# Altium integrated library Capacitors.IntLib: 260 symbols (part 1 of 3)
Pins are listed as number, name and electrical type; pins without a type are passive.

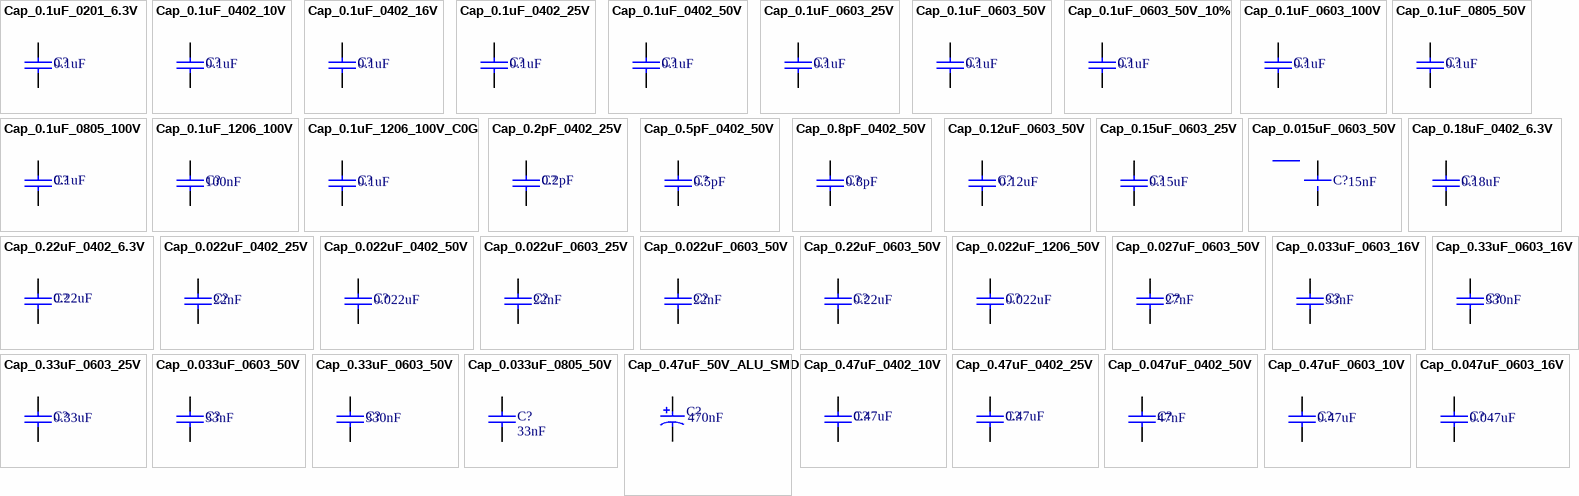
[diagram p0: symbols Cap_0.1uF_0201_6.3V to Cap_0.047uF_0603_16V]

## Cap_0.1uF_0201_6.3V
designator C?, comment value 0.1uF  (hidden comment: 0.1uF 6.3V)
CAP CER 0.1UF 6.3V X7R 0201; Manufacturer: Venkel; Manufacturer Part Number: C0201X7R6R3-104KNP-CT; Supplier 1: Digi-Key; Supplier Part Number 1: 2679-C0201X7R6R3-104KNP-CT-ND; Last modified by: J.Jaramillo; Last modified date: 20240309; ComponentLink1Description: Digi-Key; ComponentLink1URL: https://www.digikey.com/en/products/detail/venkel/C0201X7R6R3-104KNP-CT/14651869?s=N4IgTCBcDaIMIAYwIIwA0DsAlAbFgzALQoIAsA0gHIAKhcAKiALoC%2BQA
footprint 0201 (20211214 / E.Naranjo)
pins: 1, 2

## Cap_0.1uF_0402_10V
designator C?, comment value 0.1uF  (hidden comment: 0.1uF 10V)
CAP CER 0.1UF 10V X7R 0402; Manufacturer: Murata Electronics; Manufacturer Part Number: GCM155R71A104KA55D; Supplier 1: Digi-key; Supplier Part Number 1: 490-16434-1-ND; Last modified by: J.Jaramillo; Last modified date: 20240309; ComponentLink1Description: Digi-key; ComponentLink1URL: https://www.digikey.com/en/products/detail/murata-electronics/GCM155R71A104KA55D/7363178
footprint 0402
footprint 0402_RF
pins: 1, 2

## Cap_0.1uF_0402_16V
designator C?, comment value 0.1uF  (hidden comment: 0.1uF 16V)
CAP CER 0.1UF 16V X7R 0402; Manufacturer: Murata Electronics; Manufacturer Part Number: GCM155R71C104JA55D; Supplier 1: Digi-Key; Supplier Part Number 1: 490-16433-1-ND; Last modified by: J.Jaramillo; Last modified date: 20240309; ComponentLink1Description: Digi-Key; ComponentLink1URL: https://www.digikey.com/product-detail/en/murata-electronics/GCM155R71C104JA55D/490-16433-1-ND/7363415
footprint 0402 (1005 Metric / 20190221 / C-A.Serna.A)
footprint 0402_RF (1005 Metric / 20190221 / C-A.Serna.A)
pins: 1, 2

## Cap_0.1uF_0402_25V
designator C?, comment value 0.1uF  (hidden comment: 100nF 25V)
CAP CER 0.1UF 25V X7R 0402; Manufacturer: Yageo; Manufacturer Part Number: CC0402KRX7R8BB104; Last modified by: J.Jaramillo; Last modified date: 20240309; ComponentLink1Description: Digi-key; ComponentLink1URL: https://www.digikey.com/products/en?keywords=311-2077-1-ND; Supplier 1: Digi-Key; Supplier Part Number 1: 311-2077-1-ND
footprint 0402_RF
footprint 0402
pins: 1, 2

## Cap_0.1uF_0402_50V
designator C?, comment value 0.1uF  (hidden comment: 0.1uF 50V)
CAP CER 0.1UF 50V X7R 0402; Manufacturer: Samsung Electro-Mechanics; Manufacturer Part Number: CL05B104KB54PNC; Supplier 1: Digi-Key; Supplier Part Number 1: 1276-CL05B104KB54PNCCT-ND; Last modified by: J.Jaramillo; Last modified date: 20240309; ComponentLink1Description: Digi-Key; ComponentLink1URL: https://www.digikey.com/en/products/detail/samsung-electro-mechanics/CL05B104KB54PNC/11487801?s=N4IgTCBcDaIMIBkAMBWAQgRiQFgNJpWwAUA5OEAXQF8g
footprint 0402 (1005 Metric / 20190221 / C-A.Serna.A)
footprint 0402_RF (1005 Metric / 20190221 / C-A.Serna.A)
pins: 1, 2

## Cap_0.1uF_0603_25V
designator C?, comment value 0.1uF  (hidden comment: 100nF 25V)
CAP CER 0.1UF 25V X7R 0603; Manufacturer: TDK; Manufacturer Part Number: CGA3E2X7R1E104K080AA; Last modified by: J.Jaramillo; Last modified date: 20240309; ComponentLink1Description: Digi-key; ComponentLink1URL: https://www.digikey.com/en/products/detail/tdk-corporation/CGA3E2X7R1E104K080AA/2443145?s=N4IgTCBcDaIMIHECCBmAomAGgdgEoEY18AGAFgGliAOYpJEAXQF8g; Supplier 1: Digi-Key; Supplier Part Number 1: 445-5667-1-ND
footprint 0603
pins: 1, 2

## Cap_0.1uF_0603_50V
designator C?, comment value 0.1uF  (hidden comment: 0.1uF 50V)
CAP CER 0.1UF 50V X7R 0603; Manufacturer: Samsung Electro-Mechanics; Manufacturer Part Number: CL10B104JB8NNNC; Supplier 1: Digi-Key; Supplier Part Number 1: 1276-1033-1-ND; Last modified by: J.Jaramillo; Last modified date: 20240309; ComponentLink1Description: Digi-key; ComponentLink1URL: https://www.digikey.com/en/products/detail/samsung-electro-mechanics/CL10B104JB8NNNC/3886691?s=N4IgTCBcDaIIxgOwDYC0cAMBmL7UDkAREAXQF8g
footprint 0603
pins: 1, 2

## Cap_0.1uF_0603_50V_10%
designator C?, comment value 0.1uF  (hidden comment: 0.1uF 50V)
CAP CER 0.1UF 50V X7R 0603; Manufacturer: Yageo; Manufacturer Part Number: CC0603KRX7R9BB104; Supplier 1: Digi-Key; Supplier Part Number 1: 311-1344-1-ND; Last modified by: J.Jaramillo; Last modified date: 20240309; ComponentLink1Description: Digi-key; ComponentLink1URL: https://www.digikey.com/en/products/detail/yageo/CC0603KRX7R9BB104/2103082?s=N4IgTCBcDaIMJwAwDZEGYDSAlAGgdiwE4AhYgRkQBYQBdAXyA
footprint 0603
pins: 1, 2

## Cap_0.1uF_0603_100V
designator C?, comment value 0.1uF  (hidden comment: 0.1uF 100V)
CAP CER 0.1UF 100V X7R 0603; Manufacturer: Samsung Electro-Mechanics; Manufacturer Part Number: CL10B104KC8NNNC; Supplier 1: Digi-Key; Supplier Part Number 1: 1276-6807-1-ND; Last modified by: J.Jaramillo; Last modified date: 20240309; ComponentLink1Description: Digi-Key; ComponentLink1URL: https://www.digikey.com/en/products/detail/samsung-electro-mechanics/CL10B104KC8NNNC/5961291
footprint 0603 (1608 Metric / 20190221 / C-A.Serna.A)
pins: 1, 2

## Cap_0.1uF_0805_50V
designator C?, comment value 0.1uF  (hidden comment: 0.1uF 50V)
CAP CER 0.1UF 50V X7R 0805; Manufacturer: Yageo; Manufacturer Part Number: CC0805JRX7R9BB104; Supplier 1: Digi-Key; Supplier Part Number 1: 311-1858-1-ND; Last modified by: J.Jaramillo; Last modified date: 20240309; ComponentLink1Description: Digi-Key; ComponentLink1URL: https://www.digikey.com/product-detail/en/yageo/CC0805JRX7R9BB104/311-1858-1-ND/5195760
footprint 0805
pins: 1, 2

## Cap_0.1uF_0805_100V
designator C?, comment value 0.1uF  (hidden comment: 0.1uF 100V)
CAP CER 0.1UF 100V X7R 0805; Manufacturer: Samsung Electro-Mechanics; Manufacturer Part Number: CL21B104KCFWPNE; Supplier 1: Digi-Key; Supplier Part Number 1: 1276-6733-1-ND; Last modified by: J.Jaramillo; Last modified date: 20240309; ComponentLink1Description: Digi-Key; ComponentLink1URL: https://www.digikey.com/products/en?keywords=1276-6733-1-ND
footprint 0805
pins: 1, 2

## Cap_0.1uF_1206_100V
designator C?, comment value 100nF  (hidden comment: 100nF 100V)
CAP CER 0.1UF 100V X7R 1206; Manufacturer: Samsung Electro-Mechanics; Manufacturer Part Number: CL31B104KCFNNNE; Supplier 1: Digi-Key; Supplier Part Number 1: 1276-1151-1-ND; Last modified by: J.Jaramillo; Last modified date: 20240309; ComponentLink1Description: Digi-Key; ComponentLink1URL: https://www.digikey.com/en/products/detail/samsung-electro-mechanics/CL31B104KCFNNNE/3886809
footprint 1206 (3216 Metric / 20190221 / C-A.Serna.A)
pins: 1, 2

## Cap_0.1uF_1206_100V_C0G
designator C?, comment value 0.1uF  (hidden comment: 0.1uF 100V)
CAP CER 0.1UF 100V C0G 1206; Manufacturer: TDK Corporation; Manufacturer Part Number: C3216C0G2A104J160AC; Supplier 1: Digi-Key; Supplier Part Number 1: 445-172677-1-ND; Last modified by: J.Jaramillo; Last modified date: 20240309; ComponentLink1Description: Digi-Key; ComponentLink1URL: https://www.digikey.com/en/products/detail/tdk-corporation/C3216C0G2A104J160AC/5023355
footprint 1206 (3216 Metric / 20190221 / C-A.Serna.A)
pins: 1, 2

## Cap_0.2pF_0402_25V
designator C?, comment value 0.2pF  (hidden comment: 0.2pF 25V)
CAP CER 0.2PF 25V NP0 0402; Manufacturer: AVX Corporation; Manufacturer Part Number: 04023U0R2BAT2A; Supplier 1: Digi-key; Supplier Part Number 1: 478-11361-1-ND; Last modified by: J.Jaramillo; Last modified date: 20240309; ComponentLink1Description: Digi-key; ComponentLink1URL: https://www.digikey.com/product-detail/en/avx-corporation/04023U0R2BAT2A/478-11361-2-ND/3079761
footprint 0402 (1005 Metric / 20190221 / C-A.Serna.A)
footprint 0402_RF (1005 Metric / 20190221 / C-A.Serna.A)
pins: 1, 2

## Cap_0.5pF_0402_50V
designator C?, comment value 0.5pF  (hidden comment: 0.5pF 50V)
CAP CER 0.5PF 50V C0G/NP0 0402; Manufacturer: Würth Elektronik; Manufacturer Part Number: 885392005004; Supplier 1: Digi-key; Supplier Part Number 1: 732-13229-1-ND; Last modified by: J.Jaramillo; Last modified date: 20240309; ComponentLink1Description: Digi-key; ComponentLink1URL: https://www.digikey.com/product-detail/en/w%C3%BCrth-elektronik/885392005004/732-13229-1-ND/9816440
footprint 0402
footprint 0402_RF
pins: 1, 2

## Cap_0.8pF_0402_50V
designator C?, comment value 0.8pF  (hidden comment: 0.8pF 50V)
CAP CER 0.8PF 50V NP0 0402; Manufacturer Part Number: 500R07S0R8AV4T; Manufacturer: Johanson Technology Inc.; Last modified by: J.Jaramillo; Last modified date: 20240309; ComponentLink1Description: Digi-key; ComponentLink1URL: https://www.digikey.tw/products/en?keywords=712-1604-1-ND; Supplier 1: Digi-Key; Supplier Part Number 1: 712-1604-1-ND
footprint 0402_RF
footprint 0402
pins: 1, 2

## Cap_0.12uF_0603_50V
designator C?, comment value 0.12uF  (hidden comment: 0.12uF 50V)
CAP CER 0.12UF 50V X7R 0603; Manufacturer: YAGEO; Manufacturer Part Number: CC0603KRX7R9BB124; Supplier 1: Digi-Key; Supplier Part Number 1: 13-CC0603KRX7R9BB124CT-ND; Last modified by: J.Jaramillo; Last modified date: 20240309; ComponentLink1Description: Digi-Key; ComponentLink1URL: https://www.digikey.com/en/products/detail/yageo/CC0603KRX7R9BB124/11490609
footprint 0603_0.8mm (1608 Metric/20230206/J-A.Sepulveda)
pins: 1, 2

## Cap_0.15uF_0603_25V
designator C?, comment 0.15uF
CAP CER 0.15UF 25V X7R 0603; Manufacturer: Würth Elektronik; Manufacturer Part Number: 885012206072; Supplier 1: Digi-Key; Supplier Part Number 1: 732-7990-1-ND; Last modified by: J.Jaramillo; Last modified date: 20240309; ComponentLink1Description: Digi-Key; ComponentLink1URL: https://www.digikey.com/en/products/detail/würth-elektronik/885012206072/5453845; Value: 0.15uF
footprint 0603
pins: 1, 2

## Cap_0.015uF_0603_50V
designator C?, comment value 15nF  (hidden comment: 15nF 50V)
CAP CER 0.015UF 50V X7R 0603; Manufacturer: Samsung Electro-Mechanics; Manufacturer Part Number: CL10B153KB8NNNC; Supplier 1: Digi-Key; Supplier Part Number 1: 1276-1277-1-ND; Last modified by: J.Jaramillo; Last modified date: 20240309; ComponentLink1Description: Digi-Key; ComponentLink1URL: https://www.digikey.com/en/products/detail/samsung-electro-mechanics/CL10B153KB8NNNC/3886935?s=N4IgTCBcDaIMIBkCMAGAQkgrAZgNJoA4A5EuEAXQF8g
footprint 0603
footprint 0603_0.4mm (1608 Metric/20230303/J-A.Sepulveda)
footprint 0603_0.6mm (1608 Metric/20230206/J-A.Sepulveda)
footprint 0603_0.8mm (1608 Metric/20230206/J-A.Sepulveda)
footprint 0603_1.0mm (1608 Metric/20230206/J-A.Sepulveda)
footprint 0603_1.2mm (1608 Metric/20230206/J-A.Sepulveda)
footprint 0603_1.4mm (1608 Metric/20230206/J-A.Sepulveda)
pins: 1, 2

## Cap_0.18uF_0402_6.3V
designator C?, comment 0.18uF
CAP CER 0.18UF 6.3V X5R 0402; Manufacturer: Yageo; Manufacturer Part Number: CC0402KRX5R5BB184; Supplier 1: Digi-Key; Supplier Part Number 1: 13-CC0402KRX5R5BB184CT-ND; Last modified by: J.Jaramillo; Last modified date: 20240309; ComponentLink1Description: Digi-Key; ComponentLink1URL: https://www.digikey.com/en/products/detail/yageo/CC0402KRX5R5BB184/5883328?s=N4IgTCBcDaIIwGYC0BhFAGALOsBpASgBoCs%2BxAQuXAByYoAqSAcgCIgC6AvkA; Value: 0.18uF
footprint 0402 (1005 Metric / 20190221 / C-A.Serna.A)
pins: 1, 2

## Cap_0.22uF_0402_6.3V
designator C?, comment value 0.22uF  (hidden comment: 0.22uF 6.3V)
CAP CER 0.22UF 6.3V X5R 0402; Manufacturer: Yageo; Manufacturer Part Number: CC0402MRX5R5BB224; Supplier 1: Digi-Key; Supplier Part Number 1: 311-3819-1-ND; Last modified by: J.Jaramillo; Last modified date: 20240309; ComponentLink1Description: Digi-Key; ComponentLink1URL: https://www.digikey.com/en/products/detail/yageo/CC0402MRX5R5BB224/5883385
footprint 0402 (1005 Metric / 20190221 / C-A.Serna.A)
footprint 0402_RF (1005 Metric / 20190221 / C-A.Serna.A)
pins: 1, 2

## Cap_0.022uF_0402_25V
designator C?, comment value 22nF  (hidden comment: 22nF 25V)
CAP CER 0.022UF 25V X7R 0402; Manufacturer: Murata Electronics North America; Manufacturer Part Number: GRM155R71E223KA61D; Supplier 1: Digi-Key; Supplier Part Number 1: 490-3252-1-ND; Last modified by: J.Jaramillo; Last modified date: 20240309; ComponentLink1Description: Digi-key; ComponentLink1URL: https://www.digikey.com/en/products/detail/murata-electronics/GRM155R71E223KA61D/702517?s=N4IgTCBcDaIOICUCyBGArGhB2FBRMYAzANICCAbCgCIgC6AvkA
footprint 0402
footprint 0402_RF
footprint 0402_0.2mm (1005 Metric/20230206/J-A.Sepulveda)
footprint 0402_0.4mm (1005 Metric/20230206/J-A.Sepulveda)
footprint 0402_0.6mm (1005 Metric/20230206/J-A.Sepulveda)
footprint 0402_RF_0.8mm (1005 Metric/20230306/J-A.Sepulveda)
footprint 0402_0.8mm (1005 Metric/20230206/J-A.Sepulveda)
footprint 0402_1.0mm (1005 Metric/20230206/J-A.Sepulveda)
footprint 0402_RF_0.2mm (1005 Metric/20230306/J-A.Sepulveda)
footprint 0402_RF_0.4mm (1005 Metric/20230306/J-A.Sepulveda)
footprint 0402_RF_0.6mm (1005 Metric/20230306/J-A.Sepulveda)
footprint 0402_RF_1.0mm (1005 Metric/20230306/J-A.Sepulveda)
pins: 1, 2

## Cap_0.022uF_0402_50V
designator C?, comment value 0.022uF  (hidden comment: 0.022uF 50V)
CAP CER 0.022UF 50V X7R 0402; Manufacturer: YAGEO; Manufacturer Part Number: CC0402KRX7R9BB223; Supplier 1: Digi-Key; Supplier Part Number 1: 311-1722-1-ND; Last modified by: J.Jaramillo; Last modified date: 20240309; ComponentLink1Description: Digi-Key; ComponentLink1URL: https://www.digikey.com/en/products/detail/yageo/CC0402KRX7R9BB223/5195131?s=N4IgTCBcDaIMJwAwBZFgNICUAaB2TAnAEJFhgDMIAugL5A
footprint 0402 (1005 Metric / 20190221 / C-A.Serna.A)
footprint 0402_RF (1005 Metric / 20190221 / C-A.Serna.A)
footprint 0402_0.2mm (1005 Metric/20230206/J-A.Sepulveda)
footprint 0402_0.4mm (1005 Metric/20230206/J-A.Sepulveda)
footprint 0402_0.6mm (1005 Metric/20230206/J-A.Sepulveda)
footprint 0402_0.8mm (1005 Metric/20230206/J-A.Sepulveda)
footprint 0402_1.0mm (1005 Metric/20230206/J-A.Sepulveda)
footprint 0402_RF_0.2mm (1005 Metric/20230306/J-A.Sepulveda)
footprint 0402_RF_0.4mm (1005 Metric/20230306/J-A.Sepulveda)
footprint 0402_RF_0.6mm (1005 Metric/20230306/J-A.Sepulveda)
footprint 0402_RF_0.8mm (1005 Metric/20230306/J-A.Sepulveda)
footprint 0402_RF_1.0mm (1005 Metric/20230306/J-A.Sepulveda)
pins: 1, 2

## Cap_0.022uF_0603_25V
designator C?, comment value 22nF  (hidden comment: 0.022uF 25V)
CAP CER 0.022UF 25V X7R 0603; Manufacturer: Yageo; Manufacturer Part Number: CC0603KRX7R8BB223; Last modified by: J.Jaramillo; Last modified date: 20240309; ComponentLink1Description: Digi-Key; ComponentLink1URL: https://www.digikey.com/product-detail/en/yageo/CC0603KRX7R8BB223/311-1086-1-ND/302996; Supplier 1: Digi-Key; Supplier Part Number 1: 311-1086-1-ND
footprint 0603
footprint 0603_0.4mm (1608 Metric/20230303/J-A.Sepulveda)
footprint 0603_0.6mm (1608 Metric/20230206/J-A.Sepulveda)
footprint 0603_0.8mm (1608 Metric/20230206/J-A.Sepulveda)
footprint 0603_1.0mm (1608 Metric/20230206/J-A.Sepulveda)
footprint 0603_1.2mm (1608 Metric/20230206/J-A.Sepulveda)
footprint 0603_1.4mm (1608 Metric/20230206/J-A.Sepulveda)
pins: 1, 2

## Cap_0.022uF_0603_50V
designator C?, comment value 22nF  (hidden comment: 0.022uF 50V)
CAP CER 0.022UF 50V X7R 0603; Manufacturer: KEMET; Manufacturer Part Number: C0603C223K5RACTU; Last modified by: J.Jaramillo; Last modified date: 20240309; ComponentLink1Description: Digi-Key; ComponentLink1URL: https://www.digikey.com/product-detail/en/kemet/C0603C223K5RACTU/399-1280-1-ND/416056; Supplier 1: Digi-Key; Supplier Part Number 1: 399-1280-1-ND
footprint 0603
footprint 0603_0.4mm (1608 Metric/20230303/J-A.Sepulveda)
footprint 0603_0.6mm (1608 Metric/20230206/J-A.Sepulveda)
footprint 0603_0.8mm (1608 Metric/20230206/J-A.Sepulveda)
footprint 0603_1.0mm (1608 Metric/20230206/J-A.Sepulveda)
footprint 0603_1.2mm (1608 Metric/20230206/J-A.Sepulveda)
footprint 0603_1.4mm (1608 Metric/20230206/J-A.Sepulveda)
pins: 1, 2

## Cap_0.22uF_0603_50V
designator C?, comment value 0.22uF  (hidden comment: 0.22uF 50V)
CAP CER 0.22UF 50V X7R 0603; Manufacturer: Yageo; Manufacturer Part Number: CC0603KRX7R9BB224; Last modified by: J.Jaramillo; Last modified date: 20240309; ComponentLink1Description: Digi-key; ComponentLink1URL: https://www.digikey.com/en/products/detail/yageo/CC0603KRX7R9BB224/5883804?s=N4IgTCBcDaIMwEYEFo5wOwBZkoHIBEQBdAXyA; Supplier 1: Digi-Key; Supplier Part Number 1: 311-3374-1-ND
footprint 0603
pins: 1, 2

## Cap_0.022uF_1206_50V
designator C?, comment value 0.022uF  (hidden comment: 22nF 50V)
CAP CER 0.022UF 50V X7R 1206; Manufacturer: KEMET; Manufacturer Part Number: C1206C223K5RAC7800; Supplier 1: Digi-Key; Supplier Part Number 1: 399-C1206C223K5RAC7800CT-ND; Last modified by: J.Jaramillo; Last modified date: 20240309; ComponentLink1Description: Digi-Key; ComponentLink1URL: https://www.digikey.com/en/products/detail/kemet/C1206C223K5RAC7800/411241?s=N4IgTCBcDaIMIEYwAYBscxgMwGkCsASgIJwDsAHMsiALoC%2BQA
footprint 1206 (3216 Metric / 20190221 / C-A.Serna.A)
footprint 1206_0.4mm (3216 metric/20230303/J-A.Sepulveda)
footprint 1206_0.8mm (3216 Metric/20230206/J-A.Sepulveda)
footprint 1206_0.6mm (3216 Metric/20230206/J-A.Sepulveda)
footprint 1206_1.0mm (3216 Metric/20230206/J-A.Sepulveda)
footprint 1206_1.2mm (3216 Metric/20230206/J-A.Sepulveda)
footprint 1206_1.4mm (3216 Metric/20230206/J-A.Sepulveda)
footprint 1206_1.6mm (3216 Metric/20230206/J-A.Sepulveda)
footprint 1206_1.8mm (3216 Metric/20230206/J-A.Sepulveda)
footprint 1206_2.0mm (3216 Metric/20230206/J-A.Sepulveda)
footprint 1206_2.2mm (3216 Metric/20230206/J-A.Sepulveda)
footprint 1206_2.4mm (3216 Metric/20230206/J-A.Sepulveda)
footprint 1206_2.8mm (3216 Metric/20230206/J-A.Sepulveda)
pins: 1, 2

## Cap_0.027uF_0603_50V
designator C?, comment value 27nF  (hidden comment: 0.027uF 10V)
CAP CER 0.027UF 50V X7R 0603; Manufacturer: Walsin Technology Corporation; Manufacturer Part Number: 0603B273K500CT; Last modified by: J.Jaramillo; Last modified date: 20240309; ComponentLink1Description: Digi-key; ComponentLink1URL: https://www.digikey.com/product-detail/en/walsin-technology-corporation/0603B273K500CT/1292-1425-1-ND/9355429; Supplier 1: Digi-Key; Supplier Part Number 1: 1292-1425-1-ND
footprint 0603 (1608 Metric / 20190221 / C-A.Serna.A)
footprint 0603_0.4mm (1608 Metric/20230303/J-A.Sepulveda)
footprint 0603_0.6mm (1608 Metric/20230206/J-A.Sepulveda)
footprint 0603_0.8mm (1608 Metric/20230206/J-A.Sepulveda)
footprint 0603_1.0mm (1608 Metric/20230206/J-A.Sepulveda)
footprint 0603_1.2mm (1608 Metric/20230206/J-A.Sepulveda)
footprint 0603_1.4mm (1608 Metric/20230206/J-A.Sepulveda)
pins: 1, 2

## Cap_0.033uF_0603_16V
designator C?, comment value 33nF  (hidden comment: 33nF 16V)
CAP CER 0.033UF 16V X7R 0603; Manufacturer: KEMET; Manufacturer Part Number: C0603C333K4RACTU; Last modified by: J.Jaramillo; Last modified date: 20240309; ComponentLink1Description: Digi-Key; ComponentLink1URL: https://www.digikey.com/product-detail/en/kemet/C0603C333K4RACTU/399-7905-1-ND/3471628; Supplier 1: Digi-Key; Supplier Part Number 1: 399-7905-1-ND
footprint 0603
footprint 0603_0.4mm (1608 Metric/20230303/J-A.Sepulveda)
footprint 0603_0.6mm (1608 Metric/20230206/J-A.Sepulveda)
footprint 0603_0.8mm (1608 Metric/20230206/J-A.Sepulveda)
footprint 0603_1.0mm (1608 Metric/20230206/J-A.Sepulveda)
footprint 0603_1.2mm (1608 Metric/20230206/J-A.Sepulveda)
footprint 0603_1.4mm (1608 Metric/20230206/J-A.Sepulveda)
pins: 1, 2

## Cap_0.33uF_0603_16V
designator C?, comment value 330nF  (hidden comment: 0.33uF 16V)
CAP CER 0.33UF 16V Y5V 0603; Manufacturer: Yageo; Manufacturer Part Number: CC0603ZRY5V7BB334; Supplier 1: Digi-Key; Supplier Part Number 1: 311-4115-1-ND; Last modified by: J.Jaramillo; Last modified date: 20240309; ComponentLink1Description: Digi-Key; ComponentLink1URL: https://www.digikey.com/en/products/detail/yageo/CC0603ZRY5V7BB334/5883852?s=N4IgTCBcDaIMwEYEFoAsSCsyUDkAiIAugL5A
footprint 0603 (1608 Metric / 20190221 / C-A.Serna.A)
pins: 1, 2

## Cap_0.33uF_0603_25V
designator C?, comment value 0.33uF  (hidden comment: 0.33uF 25V)
CAP CER 0.33UF 25V X7R 0603; Manufacturer: Wurth Electronics Inc.; Manufacturer Part Number: 885012206074; Supplier 1: Digi-key; Supplier Part Number 1: 732-7992-1-ND; Last modified by: J.Jaramillo; Last modified date: 20240309; ComponentLink1Description: Digi-Key; ComponentLink1URL: https://www.digikey.com/product-detail/en/wurth-electronics-inc/885012206074/732-7992-1-ND/5454619
footprint 0603 (1608 Metric / 20190221 / C-A.Serna.A)
pins: 1, 2

## Cap_0.033uF_0603_50V
designator C?, comment value 33nF  (hidden comment: 33nF 50V)
CAP CER 0.033UF 50V X7R 0603; Manufacturer: Yageo; Manufacturer Part Number: CC0603KRX7R9BB333; Last modified by: J.Jaramillo; Last modified date: 20240309; ComponentLink1Description: Digi-Key; ComponentLink1URL: https://www.digikey.com/en/products/detail/yageo/CC0603KRX7R9BB333/2833594?s=N4IgTCBcDaIMwEYEFoEBYwE5XIHIBEQBdAXyA; Supplier 1: Digi-Key; Supplier Part Number 1: 311-1429-1-ND
footprint 0603
footprint 0603_0.4mm (1608 Metric/20230303/J-A.Sepulveda)
footprint 0603_0.6mm (1608 Metric/20230206/J-A.Sepulveda)
footprint 0603_0.8mm (1608 Metric/20230206/J-A.Sepulveda)
footprint 0603_1.0mm (1608 Metric/20230206/J-A.Sepulveda)
footprint 0603_1.2mm (1608 Metric/20230206/J-A.Sepulveda)
footprint 0603_1.4mm (1608 Metric/20230206/J-A.Sepulveda)
pins: 1, 2

## Cap_0.33uF_0603_50V
designator C?, comment value 330nF  (hidden comment: 330nF 50V)
CAP CER 0.33UF 50V X7R 0603; Manufacturer: TDK; Manufacturer Part Number: CGA3E3X7R1H334K080AB; Last modified by: J.Jaramillo; Last modified date: 20240309; ComponentLink1Description: Digi-key; ComponentLink1URL: https://www.digikey.com/en/products/detail/tdk-corporation/CGA3E3X7R1H334K080AB/4931465?s=N4IgTCBcDaICxwKwFoCMB2BYBsbkDkAREAXQF8g; Supplier 1: Digi-Key; Supplier Part Number 1: 445-174426-1-ND
footprint 0603
pins: 1, 2

## Cap_0.033uF_0805_50V
designator C?, comment value 33nF  (hidden comment: 0.033uF 50V)
CAP CER 0.033UF 50V X7R 0805; Manufacturer: KEMET; Manufacturer Part Number: C0805C333K5RACTU; Supplier 1: Digi-Key; Supplier Part Number 1: 399-1165-1-ND; Last modified by: J.Jaramillo; Last modified date: 20240309; ComponentLink1Description: Digi-Key; ComponentLink1URL: https://www.digikey.com/products/en?keywords=399-1165-1-ND
footprint 0805 (2012 Metric / 20190221 / C-A.Serna.A)
footprint 0805_0.4mm (2012 metric/20230306/ J-A.Sepulveda)
footprint 0805_0.6mm (2012 Metric/20230306/J-A.Sepulveda)
footprint 0805_0.8mm (2012 Metric/20230206/J-A.Sepulveda)
footprint 0805_1.0mm (2012 Metric/20230206/J-A.Sepulveda)
footprint 0805_1.2mm (2012 Metric/20230206/J-A.Sepulveda)
footprint 0805_1.4mm (2012 Metric/20230206/J-A.Sepulveda)
footprint 0805_1.6mm (2012 Metric/20230206/J-A.Sepulveda)
footprint 0805_1.8mm (2012 Metric/20230206/J-A.Sepulveda)
pins: 1, 2

## Cap_0.47uF_50V_ALU_SMD
designator C?, comment value 470nF  (hidden comment: 0.47uF 50V)
0.47uF ±20% 50V Aluminum Electrolytic Capacitors; Manufacturer: FOLLON; Manufacturer Part Number: EFVH050ADAR47M0454; Supplier 1: LCSC; Supplier Part Number 1: C22387960; Reel stock: N/A; Last modified by: J.Jaramillo; Last modified date: 270326; ComponentLink1Description: LCSC; ComponentLink1URL: https://www.lcsc.com/product-detail/C22387960.html?s_z=n_C22387960; ComponentLink2Description: Datasheet; ComponentLink2URL: https://www.lcsc.com/datasheet/C22387960.pdf
footprint RADIAL-CAN-SMD_Diax4mm_Hx5.5mm (20191118 / J-P.Vargas.A)
pins: 1, 2

## Cap_0.47uF_0402_10V
designator C?, comment value 0.47uF  (hidden comment: 0.47uF 10V)
CAP CER 0.47UF 10V X5R 0402; Manufacturer: Samsung Electro-Mechanics; Manufacturer Part Number: CL05A474KP5NNNC; Last modified by: J.Jaramillo; Last modified date: 20240309; Supplier 1: Digi-Key; Supplier Part Number 1: 1276-1173-1-ND; ComponentLink1Description: Digi-Key; ComponentLink1URL: https://www.digikey.com/product-detail/en/samsung-electro-mechanics/CL05A474KP5NNNC/1276-1173-1-ND/3889259
footprint 0402 (1005 Metric / 20190221 / C-A.Serna.A)
footprint 0402_RF (1005 Metric / 20190221 / C-A.Serna.A)
pins: 1, 2

## Cap_0.47uF_0402_25V
designator C?, comment value 0.47uF  (hidden comment: 0.47uF 25V)
CAP CER 0.47UF 25V X5R 0402; Manufacturer: Murata Electronics North America; Manufacturer Part Number: GRT155R61E474ME01D; Supplier 1: Digi-key; Supplier Part Number 1: 490-12270-1-ND; Last modified by: J.Jaramillo; Last modified date: 20240309; ComponentLink1Description: Digi-key; ComponentLink1URL: https://www.digikey.com/products/en?keywords=490-12270-1-ND
footprint 0402
footprint 0402_RF
pins: 1, 2

## Cap_0.047uF_0402_50V
designator C?, comment value 47nF  (hidden comment: 47nF 50V)
CAP CER 0.047UF 50V X7R 0402; Manufacturer Part Number: CC0402KRX7R9BB473; Manufacturer: Yageo; Last modified by: J.Jaramillo; Last modified date: 20240309; ComponentLink1Description: Digi-key; ComponentLink1URL: https://www.digikey.com/products/en?keywords=311-3815-1-ND; Supplier 1: Digi-Key; Supplier Part Number 1: 311-3815-1-ND
footprint 0402_RF
footprint 0402
footprint 0402_0.2mm (1005 Metric/20230206/J-A.Sepulveda)
footprint 0402_0.4mm (1005 Metric/20230206/J-A.Sepulveda)
footprint 0402_0.6mm (1005 Metric/20230206/J-A.Sepulveda)
footprint 0402_0.8mm (1005 Metric/20230206/J-A.Sepulveda)
footprint 0402_1.0mm (1005 Metric/20230206/J-A.Sepulveda)
footprint 0402_RF_0.2mm (1005 Metric/20230306/J-A.Sepulveda)
footprint 0402_RF_0.4mm (1005 Metric/20230306/J-A.Sepulveda)
footprint 0402_RF_0.6mm (1005 Metric/20230306/J-A.Sepulveda)
footprint 0402_RF_0.8mm (1005 Metric/20230306/J-A.Sepulveda)
footprint 0402_RF_1.0mm (1005 Metric/20230306/J-A.Sepulveda)
pins: 1, 2

## Cap_0.47uF_0603_10V
designator C?, comment value 0.47uF  (hidden comment: 0.47uF 10V)
CAP CER 0.47UF 10V X7R 0603; Manufacturer: Wurth Electronics Inc.; Manufacturer Part Number: 885012206024; Last modified by: J.Jaramillo; Last modified date: 20240309; ComponentLink1Description: Digi-key; ComponentLink1URL: https://www.digikey.com/products/en?keywords=732-7943-1-ND; Supplier 1: Digi-Key; Supplier Part Number 1: 732-7943-1-ND
footprint 0603 (1608 Metric / 20190221 / C-A.Serna.A)
pins: 1, 2

## Cap_0.047uF_0603_16V
designator C?, comment value 0.047uF  (hidden comment: 0.047uF 16V)
CAP CER 0.047UF 16V X7R 0603; Manufacturer: KEMET; Manufacturer Part Number: C0603C473K4RACTU; Last modified by: J.Jaramillo; Last modified date: 20240309; ComponentLink1Description: Digi-key; ComponentLink1URL: https://www.digikey.com/product-detail/en/kemet/C0603C473K4RACTU/399-7932-1-ND/3471655; Supplier 1: Digi-Key; Supplier Part Number 1: 399-7932-1-ND
footprint 0603
footprint 0603_0.4mm (1608 Metric/20230303/J-A.Sepulveda)
footprint 0603_0.6mm (1608 Metric/20230206/J-A.Sepulveda)
footprint 0603_0.8mm (1608 Metric/20230206/J-A.Sepulveda)
footprint 0603_1.0mm (1608 Metric/20230206/J-A.Sepulveda)
footprint 0603_1.2mm (1608 Metric/20230206/J-A.Sepulveda)
footprint 0603_1.4mm (1608 Metric/20230206/J-A.Sepulveda)
pins: 1, 2

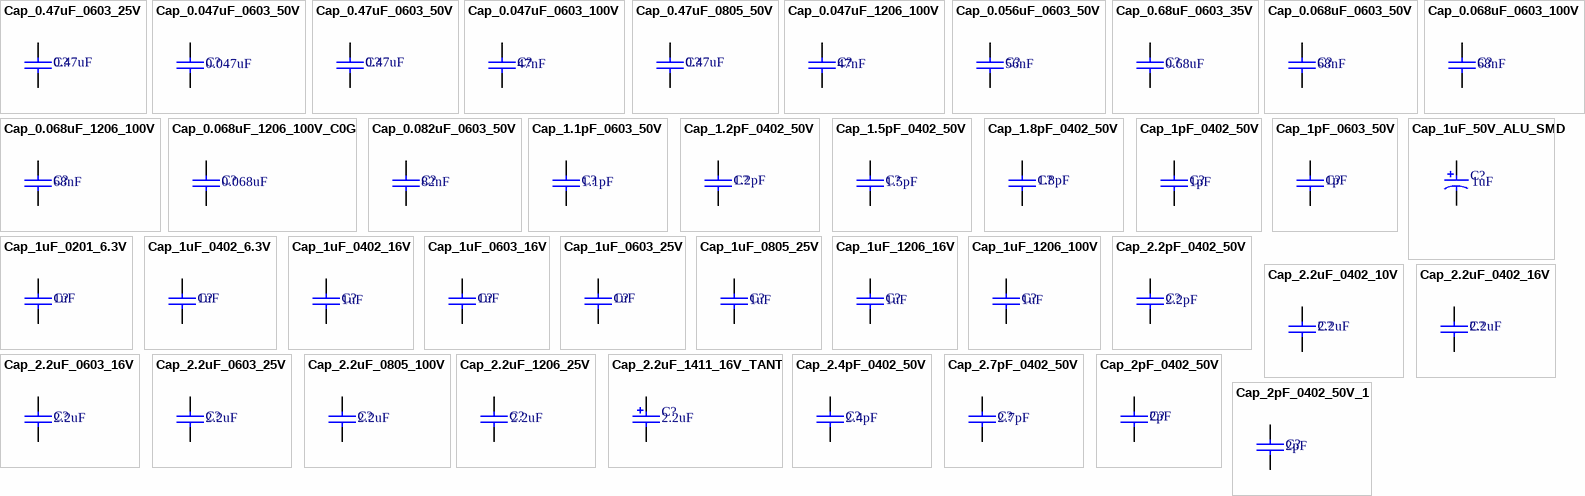
[diagram p1: symbols Cap_0.47uF_0603_25V to Cap_2pF_0402_50V_1]

## Cap_0.47uF_0603_25V
designator C?, comment value 0.47uF  (hidden comment: 0.47uF 25V)
CAP CER 0.47UF 25V X7R 0603; Manufacturer: Walsin Technologies; Manufacturer Part Number: 0603B474K250CT; Last modified by: J.Jaramillo; Last modified date: 20240309; ComponentLink1Description: Digi-key; ComponentLink1URL: https://www.digikey.com/en/products/detail/walsin-technology-corporation/0603B474K250CT/9354949?s=N4IgTCBcDaIAwDY4GYBCAWA7Og0mArHAMIAqIAugL5A; Supplier 1: Digi-Key; Supplier Part Number 1: 1292-1452-1-ND
footprint 0603
pins: 1, 2

## Cap_0.047uF_0603_50V
designator C?, comment value 0.047uF  (hidden comment: 0.047uF 50V)
CAP CER 0.047UF 50V X7R 0603; Manufacturer: Samsung Electro-Mechanics; Manufacturer Part Number: CL10B473KB8NNNC; Last modified by: J.Jaramillo; Last modified date: 20240309; ComponentLink1Description: Digi-key; ComponentLink1URL: https://www.digikey.com/products/en?keywords=1276-1063-1-ND; Supplier 1: Digi-Key; Supplier Part Number 1: 1276-1063-1-ND
footprint 0603
footprint 0603_0.4mm (1608 Metric/20230303/J-A.Sepulveda)
footprint 0603_0.6mm (1608 Metric/20230206/J-A.Sepulveda)
footprint 0603_0.8mm (1608 Metric/20230206/J-A.Sepulveda)
footprint 0603_1.0mm (1608 Metric/20230206/J-A.Sepulveda)
footprint 0603_1.2mm (1608 Metric/20230206/J-A.Sepulveda)
footprint 0603_1.4mm (1608 Metric/20230206/J-A.Sepulveda)
pins: 1, 2

## Cap_0.47uF_0603_50V
designator C?, comment value 0.47uF  (hidden comment: 0.47uF_50v)
CAP CER 0.47UF 50V X5R 0603; Manufacturer: Taiyo Yuden; Manufacturer Part Number: UMK107ABJ474KA-T; Supplier 1: Digi-Key; Supplier Part Number 1: 587-3171-1-ND; Last modified by: J.Jaramillo; Last modified date: 20240309; ComponentLink1Description: Digi-Key; ComponentLink1URL: https://www.digikey.com/en/products/detail/taiyo-yuden/UMK107ABJ474KA-T/3194980?s=N4IgTCBcDaIKwA4DsBaAzARiRlOByAIgAQgC6AvkA
footprint 0603 (1608 Metric / 20190221 / C-A.Serna.A)
pins: 1, 2

## Cap_0.047uF_0603_100V
designator C?, comment value 47nF  (hidden comment: 0.047uF 100V)
CAP CER 0.047UF 100V X7R 0603; Manufacturer: Würth Elektronik; Manufacturer Part Number: 885012206118; Supplier 1: Digi-Key; Supplier Part Number 1: 732-12192-1-ND; Last modified by: J.Jaramillo; Last modified date: 20240309; ComponentLink1Description: Digi-Key; ComponentLink1URL: https://www.digikey.com/en/products/detail/w%C3%BCrth-elektronik/885012206118/9346004
footprint 0603 (1608 Metric / 20190221 / C-A.Serna.A)
footprint 0603_0.4mm (1608 Metric/20230303/J-A.Sepulveda)
footprint 0603_0.6mm (1608 Metric/20230206/J-A.Sepulveda)
footprint 0603_0.8mm (1608 Metric/20230206/J-A.Sepulveda)
footprint 0603_1.0mm (1608 Metric/20230206/J-A.Sepulveda)
footprint 0603_1.2mm (1608 Metric/20230206/J-A.Sepulveda)
footprint 0603_1.4mm (1608 Metric/20230206/J-A.Sepulveda)
pins: 1, 2

## Cap_0.47uF_0805_50V
designator C?, comment value 0.47uF  (hidden comment: 0.47uF 50V)
CAP CER 0.47UF 50V X7R 0805; Manufacturer: KEMET; Manufacturer Part Number: C0805C474K5RACTU; Supplier 1: Digi-Key; Supplier Part Number 1: 399-8100-1-ND; Last modified by: J.Jaramillo; Last modified date: 20240309; ComponentLink1Description: Digi-Key; ComponentLink1URL: https://www.digikey.com/products/en?keywords=399-8100-1-ND
footprint 0805 (2012 Metric / 20190221 / C-A.Serna.A)
pins: 1, 2

## Cap_0.047uF_1206_100V
designator C?, comment value 47nF  (hidden comment: 47nF 100V)
CAP CER 0.047UF 100V X7R 1206; Manufacturer: YAGEO; Manufacturer Part Number: CC1206KRX7R0BB473; Supplier 1: Digi-Key; Supplier Part Number 1: 311-1507-1-ND; Last modified by: J.Jaramillo; Last modified date: 20240309; ComponentLink1Description: Digi-Key; ComponentLink1URL: https://www.digikey.com/en/products/detail/yageo/CC1206KRX7R0BB473/2833672
footprint 1206 (3216 Metric / 20190221 / C-A.Serna.A)
footprint 1206_0.4mm (3216 metric/20230303/J-A.Sepulveda)
footprint 1206_0.6mm (3216 Metric/20230206/J-A.Sepulveda)
footprint 1206_0.8mm (3216 Metric/20230206/J-A.Sepulveda)
footprint 1206_1.0mm (3216 Metric/20230206/J-A.Sepulveda)
footprint 1206_1.2mm (3216 Metric/20230206/J-A.Sepulveda)
footprint 1206_1.4mm (3216 Metric/20230206/J-A.Sepulveda)
footprint 1206_1.6mm (3216 Metric/20230206/J-A.Sepulveda)
footprint 1206_1.8mm (3216 Metric/20230206/J-A.Sepulveda)
footprint 1206_2.0mm (3216 Metric/20230206/J-A.Sepulveda)
footprint 1206_2.2mm (3216 Metric/20230206/J-A.Sepulveda)
footprint 1206_2.4mm (3216 Metric/20230206/J-A.Sepulveda)
footprint 1206_2.8mm (3216 Metric/20230206/J-A.Sepulveda)
pins: 1, 2

## Cap_0.056uF_0603_50V
designator C?, comment value 56nF  (hidden comment: 56nF 50V)
CAP CER 0.056UF 50V X7R 0603; Manufacturer: Walsin Technologies; Manufacturer Part Number: 0603B563K500CT; Last modified by: J.Jaramillo; Last modified date: 20240309; ComponentLink1Description: Digi-Key; ComponentLink1URL: https://www.digikey.com/products/en?keywords=1292-1456-1-ND; Supplier 1: Digi-Key; Supplier Part Number 1: 1292-1456-1-ND
footprint 0603
footprint 0603_0.4mm (1608 Metric/20230303/J-A.Sepulveda)
footprint 0603_0.6mm (1608 Metric/20230206/J-A.Sepulveda)
footprint 0603_0.8mm (1608 Metric/20230206/J-A.Sepulveda)
footprint 0603_1.0mm (1608 Metric/20230206/J-A.Sepulveda)
footprint 0603_1.2mm (1608 Metric/20230206/J-A.Sepulveda)
footprint 0603_1.4mm (1608 Metric/20230206/J-A.Sepulveda)
pins: 1, 2

## Cap_0.68uF_0603_35V
designator C?, comment value 0.68uF  (hidden comment: 0.68uF 35V)
CAP CER 0.68UF 35V X5R 0603; Manufacturer: TDK Corporation; Manufacturer Part Number: CGA3E3X5R1V684M080AB; Last modified by: J.Jaramillo; Last modified date: 20240309; ComponentLink1Description: Digi-key; ComponentLink1URL: https://www.digikey.com/products/en?keywords=445-12483-1-ND; Supplier 1: Digi-Key; Supplier Part Number 1: 445-12483-1-ND
footprint 0603
pins: 1, 2

## Cap_0.068uF_0603_50V
designator C?, comment value 68nF  (hidden comment: 0.068uF 50V)
CAP CER 0.068UF 50V X7R 0603; Manufacturer: Samsung Electro-Mechanics; Manufacturer Part Number: CL10B683KB8NNNC; Reel stock: N/A; Last modified by: J.Jaramillo; Last modified date: 20240309; ComponentLink1Description: Digi-key; ComponentLink1URL: https://www.digikey.com/product-detail/en/samsung-electro-mechanics/CL10B683KB8NNNC/1276-1814-1-ND/3889900; Supplier 1: Digi-Key; Supplier Part Number 1: 1276-1814-1-ND
footprint 0603
footprint 0603_0.4mm (1608 Metric/20230303/J-A.Sepulveda)
footprint 0603_0.6mm (1608 Metric/20230206/J-A.Sepulveda)
footprint 0603_0.8mm (1608 Metric/20230206/J-A.Sepulveda)
footprint 0603_1.0mm (1608 Metric/20230206/J-A.Sepulveda)
footprint 0603_1.2mm (1608 Metric/20230206/J-A.Sepulveda)
footprint 0603_1.4mm (1608 Metric/20230206/J-A.Sepulveda)
pins: 1, 2

## Cap_0.068uF_0603_100V
designator C?, comment value 68nF  (hidden comment: 0.068uF 100V)
CAP CER 0.068UF 100V X8R 0603; Manufacturer: Murata Electronics; Manufacturer Part Number: GCJ188R92A683KA01D; Supplier 1: Digi-Key; Supplier Part Number 1: 490-GCJ188R92A683KA01DCT-ND; Last modified by: J.Jaramillo; Last modified date: 20240309; ComponentLink1Description: Digi-Key; ComponentLink1URL: https://www.digikey.com/en/products/detail/murata-electronics/GCJ188R92A683KA01D/11618570?s=N4IgjCBcpgLFoDGUBmBDANgZwKYBoQB7KAbRADYBOcgJkpAF0CAHAFyhAGVWAnASwB2AcxABfAmHIIQySOmz4ipEAGZKNWFKYg2Hbv2FiJlABz1oM1JlwFikMgAZG4kDQexzoXZBABVAXysAPIoALI4aFgArjw4IARRHAIAYvEgALaCHOQmaeloAB7ZuS4AtDTSsrxRinZkAKzOLlIWfAAmHKVgDhAs7D5prACezHE%2BkcgEAI7DHGKiQA
footprint 0603 (1608 Metric / 20190221 / C-A.Serna.A)
footprint 0603_0.4mm (1608 Metric/20230303/J-A.Sepulveda)
footprint 0603_0.6mm (1608 Metric/20230206/J-A.Sepulveda)
footprint 0603_0.8mm (1608 Metric/20230206/J-A.Sepulveda)
footprint 0603_1.0mm (1608 Metric/20230206/J-A.Sepulveda)
footprint 0603_1.2mm (1608 Metric/20230206/J-A.Sepulveda)
footprint 0603_1.4mm (1608 Metric/20230206/J-A.Sepulveda)
pins: 1, 2

## Cap_0.068uF_1206_100V
designator C?, comment value 68nF  (hidden comment: 68nF 100V)
CAP CER 0.068UF 100V X7R 1206; Manufacturer: KYOCERA AVX; Manufacturer Part Number: 12061C683K4T2A; Supplier 1: Digi-Key; Supplier Part Number 1: 478-9990-1-ND; Last modified by: J.Jaramillo; Last modified date: 20240309; ComponentLink1Description: Digi-Key; ComponentLink1URL: https://www.digikey.com/en/products/detail/kyocera-avx/12061C683K4T2A/6148994
footprint 1206 (3216 Metric / 20190221 / C-A.Serna.A)
footprint 1206_0.4mm (3216 metric/20230303/J-A.Sepulveda)
footprint 1206_0.6mm (3216 Metric/20230206/J-A.Sepulveda)
footprint 1206_0.8mm (3216 Metric/20230206/J-A.Sepulveda)
footprint 1206_1.0mm (3216 Metric/20230206/J-A.Sepulveda)
footprint 1206_1.2mm (3216 Metric/20230206/J-A.Sepulveda)
footprint 1206_1.4mm (3216 Metric/20230206/J-A.Sepulveda)
footprint 1206_1.6mm (3216 Metric/20230206/J-A.Sepulveda)
footprint 1206_1.8mm (3216 Metric/20230206/J-A.Sepulveda)
footprint 1206_2.0mm (3216 Metric/20230206/J-A.Sepulveda)
footprint 1206_2.2mm (3216 Metric/20230206/J-A.Sepulveda)
footprint 1206_2.4mm (3216 Metric/20230206/J-A.Sepulveda)
footprint 1206_2.8mm (3216 Metric/20230206/J-A.Sepulveda)
pins: 1, 2

## Cap_0.068uF_1206_100V_C0G
designator C?, comment value 0.068uF  (hidden comment: 0.068uF 100V)
CAP CER 0.068UF 100V C0G 1206; Manufacturer: TDK Corporation; Manufacturer Part Number: C3216C0G2A683J160AC; Supplier 1: Digi-Key; Supplier Part Number 1: 445-172675-1-ND; Last modified by: J.Jaramillo; Last modified date: 20240309; ComponentLink1Description: Digi-Key; ComponentLink1URL: https://www.digikey.com/en/products/detail/tdk-corporation/C3216C0G2A683J160AC/5023353
footprint 1206 (3216 Metric / 20190221 / C-A.Serna.A)
pins: 1, 2

## Cap_0.082uF_0603_50V
designator C?, comment value 82nF  (hidden comment: 82nF 50V)
CAP CER 0.082UF 50V X7R 0603; Manufacturer: Yageo; Manufacturer Part Number: CC0603KRX7R9BB823; Last modified by: J.Jaramillo; Last modified date: 20240309; ComponentLink1Description: Digi-Key; ComponentLink1URL: https://www.digikey.com/product-detail/en/yageo/CC0603JRNPO0BN220/311-1755-1-ND/5195657; Supplier 1: Digi-Key; Supplier Part Number 1: 311-4102-1-ND
footprint 0603
pins: 1, 2

## Cap_1.1pF_0603_50V
designator C?, comment value 1.1pF  (hidden comment: 1.1pF 50V)
CAP CER RF 1.1PF 50V +/-0.1 PF C; Manufacturer: KEMET; Manufacturer Part Number: CBR06C119B5GAC; Supplier 1: Digi-key; Supplier Part Number 1: 399-16141-1-ND; Last modified by: J.Jaramillo; Last modified date: 20240309; ComponentLink1Description: Digi-key; ComponentLink1URL: https://www.digikey.com/product-detail/en/kemet/CBR06C119B5GAC/399-16141-1-ND/7649726
footprint 0603
pins: 1, 2

## Cap_1.2pF_0402_50V
designator C?, comment value 1.2pF  (hidden comment: 1.2pF 50V)
CAP CER 1.2PF 50V C0G/NP0 0402; Manufacturer: Murata Electronics North America; Manufacturer Part Number: CL05C1R2BB5NNNC; Supplier 1: Digi-key; Supplier Part Number 1: 1276-1652-1-ND; Last modified by: J.Jaramillo; Last modified date: 20240309; ComponentLink1Description: Digi-key; ComponentLink1URL: https://www.digikey.com/en/products/detail/samsung-electro-mechanics/CL05C1R2BB5NNNC/3887310?s=N4IgTCBcDaIIxgOwDYC0dkFYztQOQBEQBdAXyA
footprint 0402_RF
footprint 0402
pins: 1, 2

## Cap_1.5pF_0402_50V
designator C?, comment value 1.5pF  (hidden comment: 1.5pF 50V)
CAP CER 1.5PF 50V C0G/NP0 0402; Manufacturer: Murata Electronics North America; Manufacturer Part Number: GCM1555C1H1R5CA16D; Supplier 1: Digi-key; Supplier Part Number 1: 490-13289-1-ND; Last modified by: J.Jaramillo; Last modified date: 20240309; ComponentLink1Description: Digi-key; ComponentLink1URL: https://www.digikey.com/products/en?keywords=490-13289-1-ND
footprint 0402_RF
footprint 0402
pins: 1, 2

## Cap_1.8pF_0402_50V
designator C?, comment value 1.8pF  (hidden comment: 1.8pF 50V)
CAP CER 1.8PF 50V C0G/NP0 0402; Manufacturer: Murata Electronics North America; Manufacturer Part Number: GCQ1555C1H1R8CB01D; Supplier 1: Digi-key; Supplier Part Number 1: 490-17441-1-ND; Last modified by: J.Jaramillo; Last modified date: 20240309; ComponentLink1Description: Digi-key; ComponentLink1URL: https://www.digikey.com/en/products/detail/murata-electronics/GCQ1555C1H1R8CB01D/7802833
footprint 0402_RF
footprint 0402
pins: 1, 2

## Cap_1pF_0402_50V
designator C?, comment value 1pF  (hidden comment: 1pF 50V)
CAP CER 1PF 50V C0G/NPO 0402; Manufacturer: Yageo; Manufacturer Part Number: CC0402CRNPO9BN1R0; Supplier 1: Digi-key; Supplier Part Number 1: 311-2076-1-ND; Last modified by: J.Jaramillo; Last modified date: 20240309; ComponentLink1Description: Digi-Key; ComponentLink1URL: https://www.digikey.tw/products/en?keywords=311-2076-1-ND
footprint 0402 (1005 Metric / 20190221 / C-A.Serna.A)
footprint 0402_RF (1005 Metric / 20190221 / C-A.Serna.A)
pins: 1, 2

## Cap_1pF_0603_50V
designator C?, comment value 1pF  (hidden comment: 1uF 25V)
CAP CER 1PF 50V C0G/NP0 0603; Manufacturer: Samsung; Manufacturer Part Number: CC0603CRNPO9BN1R0; Last modified by: J.Jaramillo; Last modified date: 20240309; ComponentLink1Description: Digi-key; ComponentLink1URL: https://www.digikey.com/en/products/detail/yageo/CC0603CRNPO9BN1R0/303094; Supplier 1: Digi-Key; Supplier Part Number 1: 311-1049-1-ND
footprint 0603
pins: 1, 2

## Cap_1uF_50V_ALU_SMD
designator C?, comment value 1uF  (hidden comment: 1uF 50V)
CAP ALUM 1UF 20% 50V SMD; Manufacturer: Würth Elektronik; Manufacturer Part Number: 865090640005; Supplier 1: Digi-key; Supplier Part Number 1: 732-8376-1-ND; Last modified by: J.Jaramillo; Last modified date: 20240309; ComponentLink1Description: Digi-Key; ComponentLink1URL: https://www.digikey.com/en/products/detail/w%C3%BCrth-elektronik/865090640005/5727971?s=N4IgTCBcDaIOwGYwFoAcC4DZkEZkDkAREAXQF8g
footprint RADIAL-CAN-SMD_Diax4mm_Hx5.5mm (20191118 / J-P.Vargas.A)
pins: 1, 2

## Cap_1uF_0201_6.3V
designator C?, comment value 1uF  (hidden comment: 1uF 6.3V)
CAP CER 1UF 6.3V X5R 0201; Manufacturer: YAGEO; Manufacturer Part Number: CC0201KRX5R5BB105; Supplier 1: Digi-Key; Supplier Part Number 1: 311-3471-1-ND; Last modified by: J.Jaramillo; Last modified date: 20240309; ComponentLink1Description: Digi-Key; ComponentLink1URL: https://www.digikey.com/en/products/detail/yageo/CC0201KRX5R5BB105/7164355?s=N4IgTCBcDaIMJwAxkQRgNICUAaBWTuAQoaoriALoC%2BQA
footprint 0201 (20211214 / E.Naranjo)
pins: 1, 2

## Cap_1uF_0402_6.3V
designator C?, comment value 1uF  (hidden comment: 1uF 6.3V)
CAP CER 1UF 6.3V X5R 0402; Manufacturer: Murata Electronics North America; Manufacturer Part Number: GRM153R60J105ME95D; Supplier 1: Digi-key; Supplier Part Number 1: 490-14576-1-ND; Last modified by: J.Jaramillo; Last modified date: 20240309; ComponentLink1Description: Digi-key; ComponentLink1URL: https://www.digikey.com/products/en?keywords=490-14576-1-ND
footprint 0402
footprint 0402_RF
pins: 1, 2

## Cap_1uF_0402_16V
designator C?, comment value 1uF  (hidden comment: 1uF 16V)
CAP CER 1UF 16V X5R 0402; Manufacturer: Yageo; Manufacturer Part Number: CC0402KRX5R7BB105; Last modified by: J.Jaramillo; Last modified date: 20240309; ComponentLink1Description: Digi-key; ComponentLink1URL: https://www.digikey.com/en/products/detail/yageo/CC0402KRX5R7BB105/5195100?s=N4IgTCBcDaIMwEYEFoEDYCcKUDkAiIAugL5A; Supplier Part Number 1: 311-1691-1-ND; Supplier 1: Digi-Key
footprint 0402
footprint 0402_RF
pins: 1, 2

## Cap_1uF_0603_16V
designator C?, comment value 1uF  (hidden comment: 1uF 16V)
CAP CER 1UF 16V X7R 0603; Manufacturer: Samsung Electro-Mechanics; Manufacturer Part Number: CL10B105MO8NNWC; Supplier 1: Digi-Key; Supplier Part Number 1: 1276-6524-1-ND; Last modified by: J.Jaramillo; Last modified date: 20240309; ComponentLink1Description: Digi-Key; ComponentLink1URL: https://www.digikey.com/product-detail/en/samsung-electro-mechanics/CL10B105MO8NNWC/1276-6524-1-ND/5961383
footprint 0603 (1608 Metric / 20190221 / C-A.Serna.A)
pins: 1, 2

## Cap_1uF_0603_25V
designator C?, comment value 1uF  (hidden comment: 1uF 25V)
CAP CER 1UF 25V X7R 0603; Manufacturer: Samsung Electro-Mechanics; Manufacturer Part Number: CL10B105KA8VPNC; Supplier 1: Digi-Key; Supplier Part Number 1: 1276-6617-1-ND; Last modified by: J.Jaramillo; Last modified date: 20240309; ComponentLink1Description: Digi-Key; ComponentLink1URL: https://www.digikey.com/en/products/detail/samsung-electro-mechanics/CL10B105KA8VPNC/5961101?s=N4IgTCBcDaIIxgOwDYC0zl0auqByAIiALoC%2BQA
footprint 0603 (1608 Metric / 20190221 / C-A.Serna.A)
pins: 1, 2

## Cap_1uF_0805_25V
designator C?, comment value 1uF  (hidden comment: 1uF 25V)
CAP CER 1UF 25V X7R 0805; Manufacturer: Yageo; Manufacturer Part Number: CC0805KKX7R8BB105; Supplier 1: Digi-Key; Supplier Part Number 1: 311-1456-1-ND; Last modified by: J.Jaramillo; Last modified date: 20240309; ComponentLink1Description: Digi-Key; ComponentLink1URL: https://www.digikey.com/product-detail/en/yageo/CC0805KKX7R8BB105/311-1456-1-ND/2833762
footprint 0805
pins: 1, 2

## Cap_1uF_1206_16V
designator C?, comment value 1uF  (hidden comment: 1uF 16V)
CAP CER 1UF 16V X7R 1206; Manufacturer: KYOCERA AVX; Manufacturer Part Number: 1206YC105JAT2A; Supplier 1: Digi-Key; Supplier Part Number 1: 478-5178-1-ND; Last modified by: J.Jaramillo; Last modified date: 20240309; ComponentLink1Description: Digi-Key; ComponentLink1URL: https://www.digikey.com/en/products/detail/kyocera-avx/1206YC105JAT2A/1605065?s=N4IgTCBcDaIIxgAwDYCaBhOiCsApAggCpj4gC6AvkA
footprint 1206 (3216 Metric / 20190221 / C-A.Serna.A)
pins: 1, 2

## Cap_1uF_1206_100V
designator C?, comment value 1uF  (hidden comment: 1uF 100V)
CAP CER 1UF 100V X7R 1206; Manufacturer: Samsung Electro-Mechanics; Manufacturer Part Number: CL31B105KCHSNNE; Supplier 1: Digi-Key; Supplier Part Number 1: 1276-2747-1-ND; Last modified by: J.Jaramillo; Last modified date: 20240309; ComponentLink1Description: Digi-Key; ComponentLink1URL: https://www.digikey.com/en/products/detail/samsung-electro-mechanics/CL31B105KCHSNNE/3888405
footprint 1206 (3216 Metric / 20190221 / C-A.Serna.A)
pins: 1, 2

## Cap_2.2pF_0402_50V
designator C?, comment value 2.2pF  (hidden comment: 2.2pF 50V)
CAP CER 2.2PF 50V C0G/NP0 0402; Manufacturer: Murata Electronics North America; Manufacturer Part Number: GRT1555C1H2R2CA02J; Supplier 1: Digi-key; Supplier Part Number 1: 490-GRT1555C1H2R2CA02JCT-ND; Last modified by: J.Jaramillo; Last modified date: 20240309; ComponentLink1Description: Digi-key; ComponentLink1URL: https://www.digikey.com/en/products/detail/murata-electronics/GRT1555C1H2R2CA02J/13904785
footprint 0402_RF
footprint 0402
pins: 1, 2

## Cap_2.2uF_0402_10V
designator C?, comment 2.2uF
CAP CER 2.2UF 10V X5R 0402; Manufacturer: Yageo; Manufacturer Part Number: CC0402KRX5R6BB225; Supplier 1: Digikey; Supplier Part Number 1: 311-1686-1-ND; Last modified by: J.Jaramillo; Last modified date: 20240309; ComponentLink1Description: Digikey; ComponentLink1URL: https://www.digikey.com/en/products/detail/yageo/CC0402KRX5R6BB225/5195095; Value: 2.2uF
footprint 0402 (1005 Metric / 20190221 / C-A.Serna.A)
footprint 0402_RF (1005 Metric / 20190221 / C-A.Serna.A)
pins: 1, 2

## Cap_2.2uF_0402_16V
designator C?, comment value 2.2uF  (hidden comment: 2.2.uF 16V)
CAP CER 2.2UF 16V X5R 0402; Manufacturer: Murata Electronics; Manufacturer Part Number: GRM155R61C225KE11D; Supplier 1: Digi-Key; Supplier Part Number 1: 490-10695-1-ND; Last modified by: J.Jaramillo; Last modified date: 20240309; ComponentLink1Description: Digi-Key; ComponentLink1URL: https://www.digikey.com/en/products/detail/murata-electronics/GRM155R61C225KE11D/4905134?s=N4IgTCBcDaIOICUCyBGArGhA2FBhMYaA0gKIooAiIAugL5A
footprint 0402 (1005 Metric / 20190221 / C-A.Serna.A)
footprint 0402_RF (1005 Metric / 20190221 / C-A.Serna.A)
pins: 1, 2

## Cap_2.2uF_0603_16V
designator C?, comment value 2.2uF  (hidden comment: 2.2uF 16V)
CAP CER 2.2UF 16V X5R 0603; Manufacturer Part Number: 0603X225K160CT; Manufacturer: Walsin Technologies; Last modified by: J.Jaramillo; Last modified date: 20240309; ComponentLink1Description: Digi-key; ComponentLink1URL: https://www.digikey.com/en/products/detail/walsin-technology-corporation/0603X225K160CT/9341691?s=N4IgTCBcDaIAwDY4GYAaYwFYDSBGJAwgCoC0AcgCIgC6AvkA; Reel stock: N/A; Supplier 1: Digikey; Supplier Part Number 1: 0603X225K160CT-ND
footprint 0603
pins: 1, 2

## Cap_2.2uF_0603_25V
designator C?, comment value 2.2uF  (hidden comment: 2.2uF 25V)
CAP CER 2.2UF 25V X5R 0603; Manufacturer: Murata Electronics; Manufacturer Part Number: GRM188R61E225KA12D; Supplier 1: Digi-Key; Supplier Part Number 1: 490-10731-1-ND; Reel stock: N/A; Last modified by: J.Jaramillo; Last modified date: 20240309; ComponentLink1Description: Digi-Key; ComponentLink1URL: https://www.digikey.com/product-detail/en/murata-electronics/GRM188R61E225KA12D/490-10731-1-ND/5251369
footprint 0603 (1608 Metric / 20190221 / C-A.Serna.A)
pins: 1, 2

## Cap_2.2uF_0805_100V
designator C?, comment value 2.2uF  (hidden comment: 2.2uF 100V)
CAP CER 2.2UF 100V X7T 0805; Manufacturer: Murata Electronics; Manufacturer Part Number: GRM21BD72A225ME01K; Supplier 1: Digi-Key; Supplier Part Number 1: 490-GRM21BD72A225ME01KCT-ND; Last modified by: J.Jaramillo; Last modified date: 20240309; ComponentLink1Description: Digi-Key; ComponentLink1URL: https://www.digikey.com/en/products/detail/murata-electronics/GRM21BD72A225ME01K/15972575
footprint 0805 (2012 Metric / 20190221 / C-A.Serna.A)
pins: 1, 2

## Cap_2.2uF_1206_25V
designator C?, comment value 2.2uF  (hidden comment: 2.2uF 25V)
CAP CER 2.2UF 25V X7R 1206; Manufacturer: Samsung Electro-Mechanics; Manufacturer Part Number: CL31B225KAHNNNE; Supplier 1: Digi-Key; Supplier Part Number 1: 1276-1072-1-ND; Last modified by: J.Jaramillo; Last modified date: 20240309; ComponentLink1Description: Digi-Key; ComponentLink1URL: https://www.digikey.com/en/products/detail/samsung-electro-mechanics/CL31B225KAHNNNE/3886730
footprint 1206_1.8mm (3216 Metric/20230206/J-A.Sepulveda)
pins: 1, 2

## Cap_2.2uF_1411_16V_TANT
designator C?, comment value 2.2uF  (hidden comment: 2.2uF 16V)
CAP TANT 2.2UF 10% 16V 1411; Manufacturer: KEMET; Manufacturer Part Number: T491B225K016AT; Supplier 1: Digi-Key; Supplier Part Number 1: 399-8305-1-ND; Last modified by: J.Jaramillo; Last modified date: 20240309; ComponentLink1Description: Digi-Key; ComponentLink1URL: https://www.digikey.com/en/products/detail/kemet/T491B225K016AT/2336233
footprint 1411_TANT (20220308 / E.Naranjo)
pins: 1, 2

## Cap_2.4pF_0402_50V
designator C?, comment value 2.4pF  (hidden comment: 2.4pF 50V)
CAP CER 2.4PF 50V C0G/NP0 0402; Manufacturer: Murata Electronics; Manufacturer Part Number: GJM1555C1H2R4BB01D; Supplier 1: Digi-key; Supplier Part Number 1: 490-8093-1-ND; Last modified by: J.Jaramillo; Last modified date: 20240309; ComponentLink1Description: Digi-key; ComponentLink1URL: https://www.digikey.com/en/products/detail/murata-electronics/GJM1555C1H2R4BB01D/2592926
footprint 0402_RF
footprint 0402
pins: 1, 2